# EAGLE library part MICRO-USB-10118193-0001LF (library MyComponents)
Micro USB B Type Receptacle Check prices <https://pricing.snapeda.com/parts/10118193-0001LF/Amphenol%20ICC%20%28FCI%29/view-part?ref=eda>
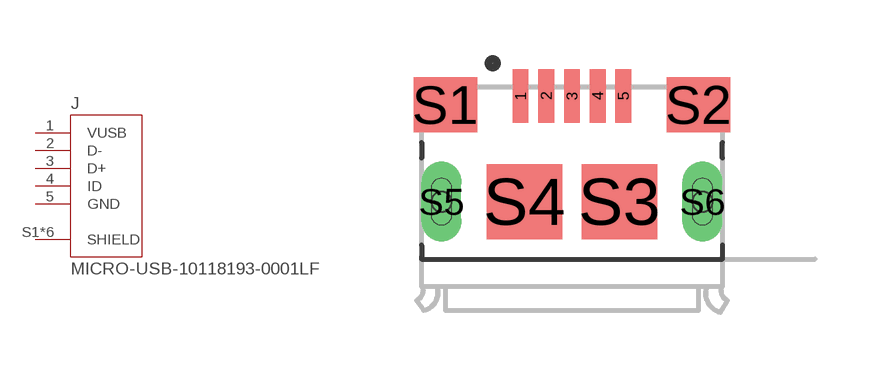
[diagram p31: symbol with the pads of MICRO-USB-10118193-0001LF; footprint MICRO-USB-10118193-0001LF]

Designator prefix J

## MICRO-USB-10118193-0001LF (DESCRIPTION: USB - micro B USB 2.0 Receptacle Connector 5 Position Surface Mount, Right Angle; Through Hole; MF: Amphenol ICC (FCI); MOUSER: 649-10118193-0001LF)  [MICRO-USB-10118193-0001LF]
1  VUSB  pas
2  D-  pas
3  D+  pas
4  ID  pas
5  GND  pas
S1  SHIELD  pas
S2  SHIELD  pas
S3  SHIELD  pas
S4  SHIELD  pas
S5  SHIELD  pas
S6  SHIELD  pas

## Footprint MICRO-USB-10118193-0001LF (pad centres in mm)
smd 0.4 x 1.35: 1 -1.3,2.675; 2 -0.65,2.675; 3 0,2.675; 4 0.65,2.675; 5 1.3,2.675
smd 1.6 x 1.4: S1 -3.2,2.45; S2 3.2,2.45
smd 1.9 x 1.9: S3 1.2,0; S4 -1.2,0
drill 0.5 pad 0.9 long: S5 -3.3,0; S6 3.3,0
hole 0.5 at -3.3,0
hole 0.5 at 3.3,0